# EAGLE library part LM1881 (library _mtvl_ic)
Video sync separator https://static.chipdip.ru/lib/142/DOC000142703.pdf
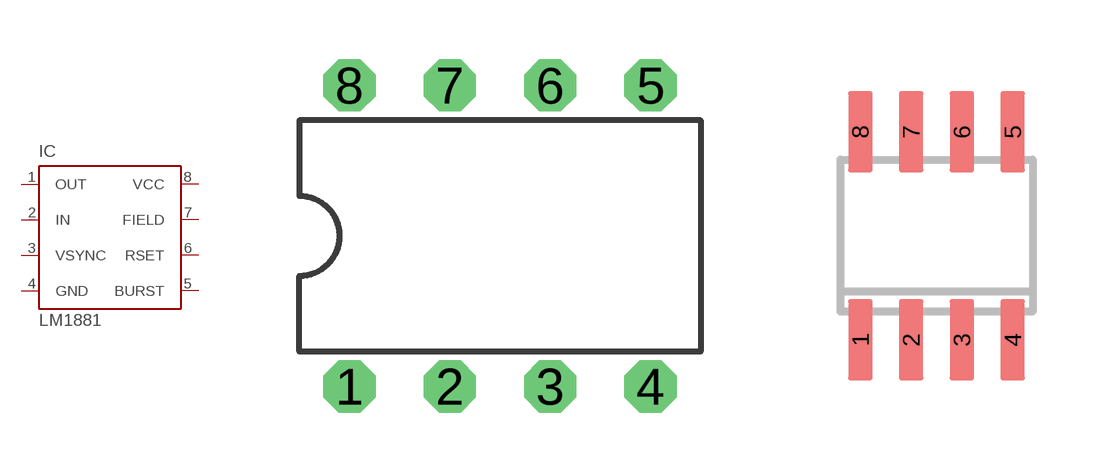
[diagram p43: symbol with the pads of DIP8; footprints DIP8, SOIC8]

Designator prefix IC

## LM1881N  [DIP8]
1  OUT
2  IN
3  VSYNC
4  GND
5  BURST
6  RSET
7  FIELD
8  VCC

## LM1881MX  [SOIC8]
Pads as for DIP8

## Footprint DIP8 (pad centres in mm)
Dual In Line Package
drill 0.813 pad 1.27 octagon: 1 -3.81,-3.81; 2 -1.27,-3.81; 3 1.27,-3.81; 4 3.81,-3.81; 5 3.81,3.81; 6 1.27,3.81; 7 -1.27,3.81; 8 -3.81,3.81

## Footprint SOIC8 (pad centres in mm)
Small Outline IC
smd 0.61 x 2.032: 1 -1.905,-2.6; 2 -0.635,-2.6; 3 0.635,-2.6; 4 1.905,-2.6; 5 1.905,2.6; 6 0.635,2.6; 7 -0.635,2.6; 8 -1.905,2.6